# Altium footprint library Diodes.PcbLib: 3 footprints
Each footprint in its own frame and in the unit in brackets; x right, y up, seen from the top. Pads: shape width x height; smd on the part's side, far side on the other; paste and mask are expansions set on the pad; w line width, h text height; cw(c..) or ccw(c..) is an arc to the next point about the centre after c.
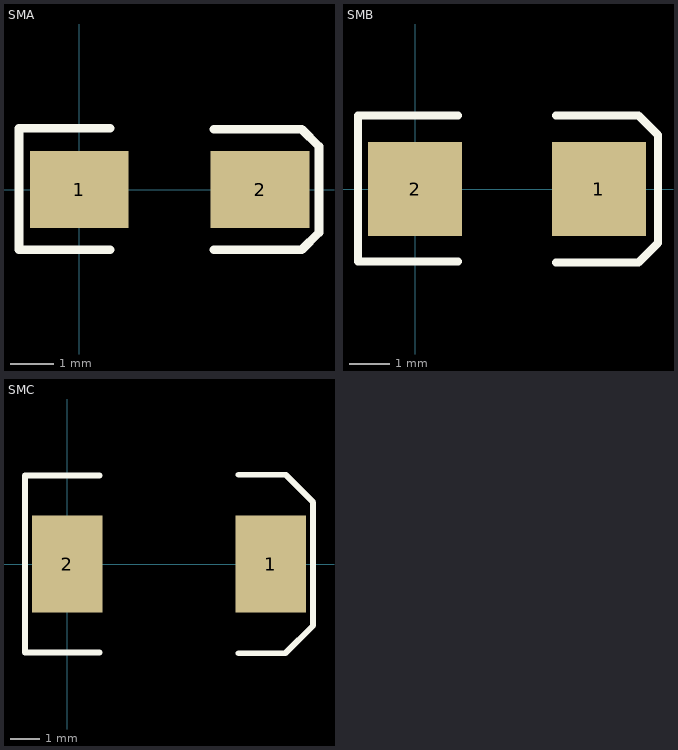
[diagram p0: the footprints below, top view; thin cyan lines are the x and y axes]

## SMA [mm]
pads (2):
  rect 2.3x1.8 smd: 1(0,0) 2(4.204,0)
Top Overlay:
  lines w0.2: 0.725,-1.4 -1.4,-1.4 -1.4,1.425 0.725,1.425 ; 3.125,-1.4 5.175,-1.4 5.575,-1 5.575,1 5.175,1.4 3.125,1.4
3D body "DO-214AC SMA.STEP": height 2.55, standoff -0.02, extent -0.591,-1.4 4.909,1.4

## SMB [mm]
pads (2):
  rect 2.3x2.3 smd: 1(4.5,0) 2(0,0)
Top Overlay:
  lines w0.2: 1.05,-1.775 -1.4,-1.775 -1.4,1.8 1.05,1.8 ; 3.45,-1.8 5.475,-1.8 5.95,-1.325 5.95,1.325 5.475,1.8 3.45,1.8
3D body "DO-214AA SMB.STEP": height 2.3, standoff 0, extent -0.375,-1.8 5.025,1.8

## SMC [mm]
pads (2):
  rect 2.4x3.3 smd: 1(6.95,0) 2(0,0)
Top Overlay:
  lines w0.2: 1.1,-3.025 -1.45,-3.025 -1.45,3.025 1.1,3.025 ; 5.85,-3.05 7.45,-3.05 8.4,-2.1 8.4,2.106 7.466,3.05 5.85,3.05
3D body "DO-214AB SMC.STEP": height 2.4, standoff 0.03, extent -0.382,-3.05 7.748,3.05